# Altium footprint library Motorola Footprints.PcbLib: 408 footprints (part 10 of 26)
Each footprint in its own frame and in the unit in brackets; x right, y up, seen from the top. Pads: shape width x height; smd on the part's side, far side on the other; paste and mask are expansions set on the pad; w line width, h text height; cw(c..) or ccw(c..) is an arc to the next point about the centre after c.
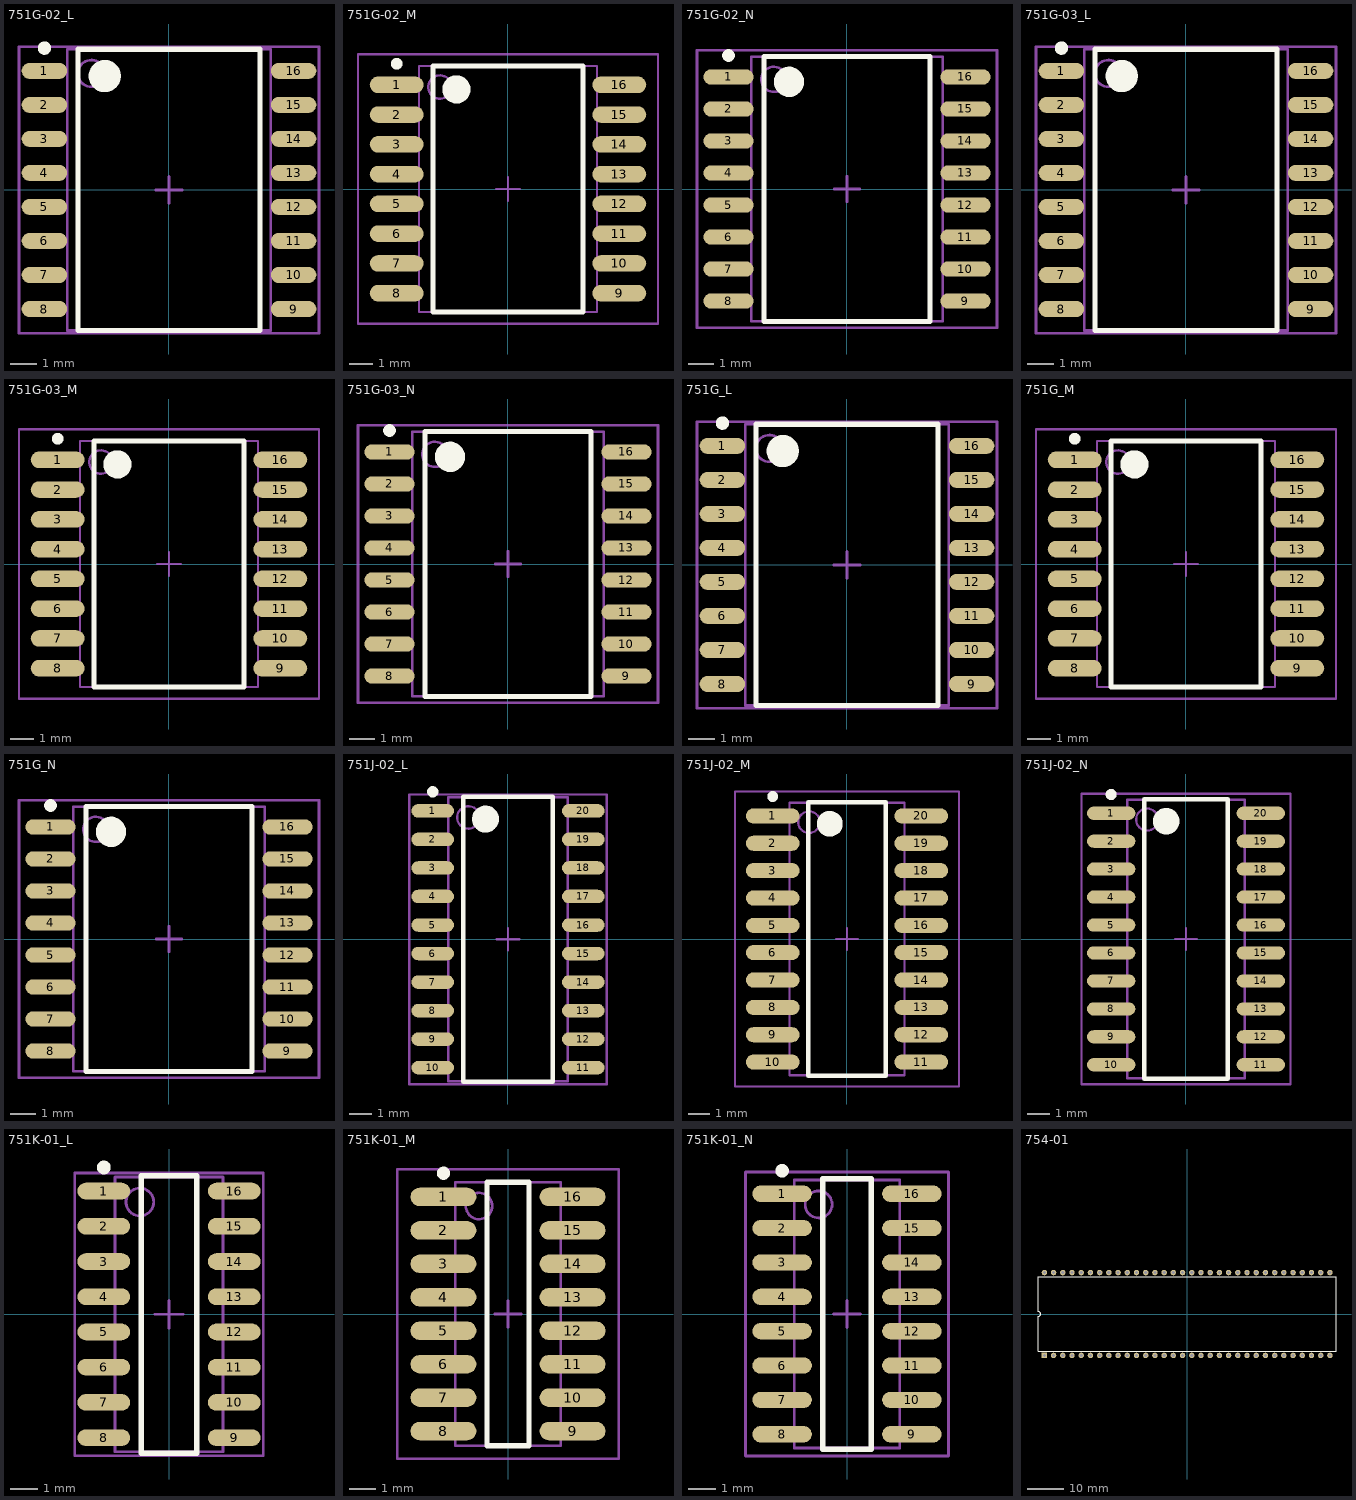
[diagram p9: the footprints below, top view; thin cyan lines are the x and y axes]

## 751G-02_L [mm] "16-Pin Small Outline Integrated Circuit 1.27 mm Pitch, IPC High Density"
height 2.65
pads (16):
  oval 1.7x0.6 smd: 1(-4.65,4.445) 2(-4.65,3.175) 3(-4.65,1.905) 4(-4.65,0.635) 5(-4.65,-0.635) 6(-4.65,-1.905) 7(-4.65,-3.175) 8(-4.65,-4.445) 9(4.65,-4.445) 10(4.65,-3.175) 11(4.65,-1.905) 12(4.65,-0.635) 13(4.65,0.635) 14(4.65,1.905) 15(4.65,3.175) 16(4.65,4.445)
Top Overlay:
  circle w0.6: c-2.4,4.25 r0.3
  circle w0.25: c-4.65,5.295 r0.125
  lines w0.2: -3.4,-5.25 3.4,-5.25 3.4,5.25 -3.4,5.25 -3.4,-5.25
Mechanical 13:
  circle w0.1: c-2.9,4.35 r0.5
  lines w0.1: -3.8,-5.25 3.8,-5.25 3.8,5.25 -3.8,5.25 -3.8,-5.25
Mechanical 15:
  lines w0.1: -0.5,0 0.5,0 ; 0,-0.5 0,0.5 ; -5.6,-5.35 5.6,-5.35 5.6,5.35 -5.6,5.35 -5.6,-5.35
3D body: height 2.65, standoff 0, extent -3.8,-5.25 3.8,5.25

## 751G-02_M [mm] "16-Pin Small Outline Integrated Circuit 1.27 mm Pitch, IPC Low Density"
height 2.65
pads (16):
  oval 2.3x0.7 smd: 1(-4.75,4.445) 2(-4.75,3.175) 3(-4.75,1.905) 4(-4.75,0.635) 5(-4.75,-0.635) 6(-4.75,-1.905) 7(-4.75,-3.175) 8(-4.75,-4.445) 9(4.75,-4.445) 10(4.75,-3.175) 11(4.75,-1.905) 12(4.75,-0.635) 13(4.75,0.635) 14(4.75,1.905) 15(4.75,3.175) 16(4.75,4.445)
Top Overlay:
  circle w0.25: c-4.75,5.345 r0.125
  circle w0.6: c-2.2,4.25 r0.3
  lines w0.2: -3.2,-5.25 -3.2,5.25 3.2,5.25 3.2,-5.25 -3.2,-5.25
Mechanical 13:
  circle w0.1: c-2.9,4.35 r0.5
  lines w0.1: -3.8,-5.25 -3.8,5.25 3.8,5.25 3.8,-5.25 -3.8,-5.25
Mechanical 15:
  lines w0.1: -0.5,0 0.5,0 ; 0,-0.5 0,0.5 ; -6.4,-5.75 -6.4,5.75 6.4,5.75 6.4,-5.75 -6.4,-5.75
3D body: height 2.65, standoff 0, extent -3.8,-5.25 3.8,5.25

## 751G-02_N [mm] "16-Pin Small Outline Integrated Circuit 1.27 mm Pitch, IPC Medium Density"
height 2.65
pads (16):
  oval 2x0.6 smd: 1(-4.7,4.445) 2(-4.7,3.175) 3(-4.7,1.905) 4(-4.7,0.635) 5(-4.7,-0.635) 6(-4.7,-1.905) 7(-4.7,-3.175) 8(-4.7,-4.445) 9(4.7,-4.445) 10(4.7,-3.175) 11(4.7,-1.905) 12(4.7,-0.635) 13(4.7,0.635) 14(4.7,1.905) 15(4.7,3.175) 16(4.7,4.445)
Top Overlay:
  circle w0.25: c-4.7,5.295 r0.125
  circle w0.6: c-2.3,4.25 r0.3
  lines w0.2: -3.3,-5.25 -3.3,5.25 3.3,5.25 3.3,-5.25 -3.3,-5.25
Mechanical 13:
  circle w0.1: c-2.9,4.35 r0.5
  lines w0.1: -3.8,-5.25 -3.8,5.25 3.8,5.25 3.8,-5.25 -3.8,-5.25
Mechanical 15:
  lines w0.1: -0.5,0 0.5,0 ; 0,-0.5 0,0.5 ; -5.95,-5.5 -5.95,5.5 5.95,5.5 5.95,-5.5 -5.95,-5.5
3D body: height 2.65, standoff 0, extent -3.8,-5.25 3.8,5.25

## 751G-03_L [mm] "16-Pin Small Outline Integrated Circuit 1.27 mm Pitch, IPC High Density"
height 2.65
pads (16):
  oval 1.7x0.6 smd: 1(-4.65,4.445) 2(-4.65,3.175) 3(-4.65,1.905) 4(-4.65,0.635) 5(-4.65,-0.635) 6(-4.65,-1.905) 7(-4.65,-3.175) 8(-4.65,-4.445) 9(4.65,-4.445) 10(4.65,-3.175) 11(4.65,-1.905) 12(4.65,-0.635) 13(4.65,0.635) 14(4.65,1.905) 15(4.65,3.175) 16(4.65,4.445)
Top Overlay:
  circle w0.6: c-2.4,4.25 r0.3
  circle w0.25: c-4.65,5.295 r0.125
  lines w0.2: -3.4,-5.25 3.4,-5.25 3.4,5.25 -3.4,5.25 -3.4,-5.25
Mechanical 13:
  circle w0.1: c-2.9,4.35 r0.5
  lines w0.1: -3.8,-5.25 3.8,-5.25 3.8,5.25 -3.8,5.25 -3.8,-5.25
Mechanical 15:
  lines w0.1: -0.5,0 0.5,0 ; 0,-0.5 0,0.5 ; -5.6,-5.35 5.6,-5.35 5.6,5.35 -5.6,5.35 -5.6,-5.35
3D body: height 2.65, standoff 0, extent -3.8,-5.25 3.8,5.25

## 751G-03_M [mm] "16-Pin Small Outline Integrated Circuit 1.27 mm Pitch, IPC Low Density"
height 2.65
pads (16):
  oval 2.3x0.7 smd: 1(-4.75,4.445) 2(-4.75,3.175) 3(-4.75,1.905) 4(-4.75,0.635) 5(-4.75,-0.635) 6(-4.75,-1.905) 7(-4.75,-3.175) 8(-4.75,-4.445) 9(4.75,-4.445) 10(4.75,-3.175) 11(4.75,-1.905) 12(4.75,-0.635) 13(4.75,0.635) 14(4.75,1.905) 15(4.75,3.175) 16(4.75,4.445)
Top Overlay:
  circle w0.25: c-4.75,5.345 r0.125
  circle w0.6: c-2.2,4.25 r0.3
  lines w0.2: -3.2,-5.25 -3.2,5.25 3.2,5.25 3.2,-5.25 -3.2,-5.25
Mechanical 13:
  circle w0.1: c-2.9,4.35 r0.5
  lines w0.1: -3.8,-5.25 -3.8,5.25 3.8,5.25 3.8,-5.25 -3.8,-5.25
Mechanical 15:
  lines w0.1: -0.5,0 0.5,0 ; 0,-0.5 0,0.5 ; -6.4,-5.75 -6.4,5.75 6.4,5.75 6.4,-5.75 -6.4,-5.75
3D body: height 2.65, standoff 0, extent -3.8,-5.25 3.8,5.25

## 751G-03_N [mm] "16-Pin Small Outline Integrated Circuit 1.27 mm Pitch, IPC Medium Density"
height 2.65
pads (16):
  oval 2x0.6 smd: 1(-4.7,4.445) 2(-4.7,3.175) 3(-4.7,1.905) 4(-4.7,0.635) 5(-4.7,-0.635) 6(-4.7,-1.905) 7(-4.7,-3.175) 8(-4.7,-4.445) 9(4.7,-4.445) 10(4.7,-3.175) 11(4.7,-1.905) 12(4.7,-0.635) 13(4.7,0.635) 14(4.7,1.905) 15(4.7,3.175) 16(4.7,4.445)
Top Overlay:
  circle w0.25: c-4.7,5.295 r0.125
  circle w0.6: c-2.3,4.25 r0.3
  lines w0.2: -3.3,-5.25 -3.3,5.25 3.3,5.25 3.3,-5.25 -3.3,-5.25
Mechanical 13:
  circle w0.1: c-2.9,4.35 r0.5
  lines w0.1: -3.8,-5.25 -3.8,5.25 3.8,5.25 3.8,-5.25 -3.8,-5.25
Mechanical 15:
  lines w0.1: -0.5,0 0.5,0 ; 0,-0.5 0,0.5 ; -5.95,-5.5 -5.95,5.5 5.95,5.5 5.95,-5.5 -5.95,-5.5
3D body: height 2.65, standoff 0, extent -3.8,-5.25 3.8,5.25

## 751G_L [mm] "16-Pin Small Outline Integrated Circuit 1.27 mm Pitch, IPC High Density"
height 2.65
pads (16):
  oval 1.7x0.6 smd: 1(-4.65,4.445) 2(-4.65,3.175) 3(-4.65,1.905) 4(-4.65,0.635) 5(-4.65,-0.635) 6(-4.65,-1.905) 7(-4.65,-3.175) 8(-4.65,-4.445) 9(4.65,-4.445) 10(4.65,-3.175) 11(4.65,-1.905) 12(4.65,-0.635) 13(4.65,0.635) 14(4.65,1.905) 15(4.65,3.175) 16(4.65,4.445)
Top Overlay:
  circle w0.6: c-2.4,4.25 r0.3
  circle w0.25: c-4.65,5.295 r0.125
  lines w0.2: -3.4,-5.25 3.4,-5.25 3.4,5.25 -3.4,5.25 -3.4,-5.25
Mechanical 13:
  circle w0.1: c-2.9,4.35 r0.5
  lines w0.1: -3.8,-5.25 3.8,-5.25 3.8,5.25 -3.8,5.25 -3.8,-5.25
Mechanical 15:
  lines w0.1: -0.5,0 0.5,0 ; 0,-0.5 0,0.5 ; -5.6,-5.35 5.6,-5.35 5.6,5.35 -5.6,5.35 -5.6,-5.35
3D body: height 2.65, standoff 0, extent -3.8,-5.25 3.8,5.25

## 751G_M [mm] "16-Pin Small Outline Integrated Circuit 1.27 mm Pitch, IPC Low Density"
height 2.65
pads (16):
  oval 2.3x0.7 smd: 1(-4.75,4.445) 2(-4.75,3.175) 3(-4.75,1.905) 4(-4.75,0.635) 5(-4.75,-0.635) 6(-4.75,-1.905) 7(-4.75,-3.175) 8(-4.75,-4.445) 9(4.75,-4.445) 10(4.75,-3.175) 11(4.75,-1.905) 12(4.75,-0.635) 13(4.75,0.635) 14(4.75,1.905) 15(4.75,3.175) 16(4.75,4.445)
Top Overlay:
  circle w0.25: c-4.75,5.345 r0.125
  circle w0.6: c-2.2,4.25 r0.3
  lines w0.2: -3.2,-5.25 -3.2,5.25 3.2,5.25 3.2,-5.25 -3.2,-5.25
Mechanical 13:
  circle w0.1: c-2.9,4.35 r0.5
  lines w0.1: -3.8,-5.25 -3.8,5.25 3.8,5.25 3.8,-5.25 -3.8,-5.25
Mechanical 15:
  lines w0.1: -0.5,0 0.5,0 ; 0,-0.5 0,0.5 ; -6.4,-5.75 -6.4,5.75 6.4,5.75 6.4,-5.75 -6.4,-5.75
3D body: height 2.65, standoff 0, extent -3.8,-5.25 3.8,5.25

## 751G_N [mm] "16-Pin Small Outline Integrated Circuit 1.27 mm Pitch, IPC Medium Density"
height 2.65
pads (16):
  oval 2x0.6 smd: 1(-4.7,4.445) 2(-4.7,3.175) 3(-4.7,1.905) 4(-4.7,0.635) 5(-4.7,-0.635) 6(-4.7,-1.905) 7(-4.7,-3.175) 8(-4.7,-4.445) 9(4.7,-4.445) 10(4.7,-3.175) 11(4.7,-1.905) 12(4.7,-0.635) 13(4.7,0.635) 14(4.7,1.905) 15(4.7,3.175) 16(4.7,4.445)
Top Overlay:
  circle w0.25: c-4.7,5.295 r0.125
  circle w0.6: c-2.3,4.25 r0.3
  lines w0.2: -3.3,-5.25 -3.3,5.25 3.3,5.25 3.3,-5.25 -3.3,-5.25
Mechanical 13:
  circle w0.1: c-2.9,4.35 r0.5
  lines w0.1: -3.8,-5.25 -3.8,5.25 3.8,5.25 3.8,-5.25 -3.8,-5.25
Mechanical 15:
  lines w0.1: -0.5,0 0.5,0 ; 0,-0.5 0,0.5 ; -5.95,-5.5 -5.95,5.5 5.95,5.5 5.95,-5.5 -5.95,-5.5
3D body: height 2.65, standoff 0, extent -3.8,-5.25 3.8,5.25

## 751J-02_L [mm] "20-Pin Small Outline Package 1.27 mm Pitch, IPC High Density"
height 2
pads (20):
  oval 1.9x0.6 smd: 1(-3.35,5.715) 2(-3.35,4.445) 3(-3.35,3.175) 4(-3.35,1.905) 5(-3.35,0.635) 6(-3.35,-0.635) 7(-3.35,-1.905) 8(-3.35,-3.175) 9(-3.35,-4.445) 10(-3.35,-5.715) 11(3.35,-5.715) 12(3.35,-4.445) 13(3.35,-3.175) 14(3.35,-1.905) 15(3.35,-0.635) 16(3.35,0.635) 17(3.35,1.905) 18(3.35,3.175) 19(3.35,4.445) 20(3.35,5.715)
Top Overlay:
  circle w0.25: c-3.35,6.565 r0.125
  circle w0.6: c-1,5.35 r0.3
  lines w0.2: -2,-6.35 -2,6.35 2,6.35 2,-6.35 -2,-6.35
Mechanical 13:
  circle w0.1: c-1.765,5.425 r0.5
  lines w0.1: -2.665,-6.325 -2.665,6.325 2.665,6.325 2.665,-6.325 -2.665,-6.325
Mechanical 15:
  lines w0.1: -0.5,0 0.5,0 ; 0,-0.5 0,0.5 ; -4.4,-6.45 -4.4,6.45 4.4,6.45 4.4,-6.45 -4.4,-6.45
3D body: height 2, standoff 0, extent -2.665,-6.325 2.665,6.325

## 751J-02_M [mm] "20-Pin Small Outline Package 1.27 mm Pitch, IPC Low Density"
height 2
pads (20):
  oval 2.5x0.7 smd: 1(-3.45,5.715) 2(-3.45,4.445) 3(-3.45,3.175) 4(-3.45,1.905) 5(-3.45,0.635) 6(-3.45,-0.635) 7(-3.45,-1.905) 8(-3.45,-3.175) 9(-3.45,-4.445) 10(-3.45,-5.715) 11(3.45,-5.715) 12(3.45,-4.445) 13(3.45,-3.175) 14(3.45,-1.905) 15(3.45,-0.635) 16(3.45,0.635) 17(3.45,1.905) 18(3.45,3.175) 19(3.45,4.445) 20(3.45,5.715)
Top Overlay:
  circle w0.6: c-0.8,5.35 r0.3
  circle w0.25: c-3.45,6.615 r0.125
  lines w0.2: -1.8,-6.35 1.8,-6.35 1.8,6.35 -1.8,6.35 -1.8,-6.35
Mechanical 13:
  circle w0.1: c-1.765,5.425 r0.5
  lines w0.1: -2.665,-6.325 2.665,-6.325 2.665,6.325 -2.665,6.325 -2.665,-6.325
Mechanical 15:
  lines w0.1: -0.5,0 0.5,0 ; 0,-0.5 0,0.5 ; -5.2,-6.85 5.2,-6.85 5.2,6.85 -5.2,6.85 -5.2,-6.85
3D body: height 2, standoff 0, extent -2.665,-6.325 2.665,6.325

## 751J-02_N [mm] "20-Pin Small Outline Package 1.27 mm Pitch, IPC Medium Density"
height 2
pads (20):
  oval 2.2x0.6 smd: 1(-3.4,5.715) 2(-3.4,4.445) 3(-3.4,3.175) 4(-3.4,1.905) 5(-3.4,0.635) 6(-3.4,-0.635) 7(-3.4,-1.905) 8(-3.4,-3.175) 9(-3.4,-4.445) 10(-3.4,-5.715) 11(3.4,-5.715) 12(3.4,-4.445) 13(3.4,-3.175) 14(3.4,-1.905) 15(3.4,-0.635) 16(3.4,0.635) 17(3.4,1.905) 18(3.4,3.175) 19(3.4,4.445) 20(3.4,5.715)
Top Overlay:
  circle w0.25: c-3.4,6.565 r0.125
  circle w0.6: c-0.9,5.35 r0.3
  lines w0.2: -1.9,-6.35 -1.9,6.35 1.9,6.35 1.9,-6.35 -1.9,-6.35
Mechanical 13:
  circle w0.1: c-1.765,5.425 r0.5
  lines w0.1: -2.665,-6.325 -2.665,6.325 2.665,6.325 2.665,-6.325 -2.665,-6.325
Mechanical 15:
  lines w0.1: -0.5,0 0.5,0 ; 0,-0.5 0,0.5 ; -4.75,-6.6 -4.75,6.6 4.75,6.6 4.75,-6.6 -4.75,-6.6
3D body: height 2, standoff 0, extent -2.665,-6.325 2.665,6.325

## 751K-01_L [mm] "16-Pin Small Outline Integrated Circuit 1.27 mm Pitch, IPC High Density"
height 1.75
pads (16):
  oval 1.9x0.6 smd: 1(-2.35,4.445) 2(-2.35,3.175) 3(-2.35,1.905) 4(-2.35,0.635) 5(-2.35,-0.635) 6(-2.35,-1.905) 7(-2.35,-3.175) 8(-2.35,-4.445) 9(2.35,-4.445) 10(2.35,-3.175) 11(2.35,-1.905) 12(2.35,-0.635) 13(2.35,0.635) 14(2.35,1.905) 15(2.35,3.175) 16(2.35,4.445)
Top Overlay:
  circle w0.25: c-2.35,5.295 r0.125
  lines w0.2: -1,-5 1,-5 1,5 -1,5 -1,-5
Mechanical 13:
  circle w0.1: c-1.05,4.05 r0.5
  lines w0.1: -1.95,-4.95 1.95,-4.95 1.95,4.95 -1.95,4.95 -1.95,-4.95
Mechanical 15:
  lines w0.1: -0.5,0 0.5,0 ; 0,-0.5 0,0.5 ; -3.4,-5.1 3.4,-5.1 3.4,5.1 -3.4,5.1 -3.4,-5.1
3D body: height 1.75, standoff 0, extent -1.95,-4.95 1.95,4.95

## 751K-01_M [mm] "16-Pin Small Outline Integrated Circuit 1.27 mm Pitch, IPC Low Density"
height 1.75
pads (16):
  oval 2.5x0.7 smd: 1(-2.45,4.445) 2(-2.45,3.175) 3(-2.45,1.905) 4(-2.45,0.635) 5(-2.45,-0.635) 6(-2.45,-1.905) 7(-2.45,-3.175) 8(-2.45,-4.445) 9(2.45,-4.445) 10(2.45,-3.175) 11(2.45,-1.905) 12(2.45,-0.635) 13(2.45,0.635) 14(2.45,1.905) 15(2.45,3.175) 16(2.45,4.445)
Top Overlay:
  circle w0.25: c-2.45,5.345 r0.125
  lines w0.2: -0.8,-5 0.8,-5 0.8,5 -0.8,5 -0.8,-5
Mechanical 13:
  circle w0.1: c-1.1,4.1 r0.5
  lines w0.1: -2,-5 2,-5 2,5 -2,5 -2,-5
Mechanical 15:
  lines w0.1: -0.5,0 0.5,0 ; 0,-0.5 0,0.5 ; -4.2,-5.5 4.2,-5.5 4.2,5.5 -4.2,5.5 -4.2,-5.5
3D body: height 1.75, standoff 0, extent -2,-5 2,5

## 751K-01_N [mm] "16-Pin Small Outline Integrated Circuit 1.27 mm Pitch, IPC Medium Density"
height 1.75
pads (16):
  oval 2.2x0.6 smd: 1(-2.4,4.445) 2(-2.4,3.175) 3(-2.4,1.905) 4(-2.4,0.635) 5(-2.4,-0.635) 6(-2.4,-1.905) 7(-2.4,-3.175) 8(-2.4,-4.445) 9(2.4,-4.445) 10(2.4,-3.175) 11(2.4,-1.905) 12(2.4,-0.635) 13(2.4,0.635) 14(2.4,1.905) 15(2.4,3.175) 16(2.4,4.445)
Top Overlay:
  circle w0.25: c-2.4,5.295 r0.125
  lines w0.2: -0.9,-5 -0.9,5 0.9,5 0.9,-5 -0.9,-5
Mechanical 13:
  circle w0.1: c-1.05,4.05 r0.5
  lines w0.1: -1.95,-4.95 -1.95,4.95 1.95,4.95 1.95,-4.95 -1.95,-4.95
Mechanical 15:
  lines w0.1: -0.5,0 0.5,0 ; 0,-0.5 0,0.5 ; -3.75,-5.25 -3.75,5.25 3.75,5.25 3.75,-5.25 -3.75,-5.25
3D body: height 1.75, standoff 0, extent -1.95,-4.95 1.95,4.95

## 754-01 [mm] "DIP; 64 Leads; Row Spacing 22.86 mm; Pitch 2.54 mm"
height 5.84
pads (64):
  rect 1.5x1.5 hole 0.9: 1(-39.37,-11.43)
  round 1.5 hole 0.9: 2(-36.83,-11.43) 3(-34.29,-11.43) 4(-31.75,-11.43) 5(-29.21,-11.43) 6(-26.67,-11.43) 7(-24.13,-11.43) 8(-21.59,-11.43) 9(-19.05,-11.43) 10(-16.51,-11.43) 11(-13.97,-11.43) 12(-11.43,-11.43) 13(-8.89,-11.43) 14(-6.35,-11.43) 15(-3.81,-11.43) 16(-1.27,-11.43) 17(1.27,-11.43) 18(3.81,-11.43) 19(6.35,-11.43) 20(8.89,-11.43) 21(11.43,-11.43) 22(13.97,-11.43) 23(16.51,-11.43) 24(19.05,-11.43) 25(21.59,-11.43) 26(24.13,-11.43) 27(26.67,-11.43) 28(29.21,-11.43) 29(31.75,-11.43) 30(34.29,-11.43) 31(36.83,-11.43) 32(39.37,-11.43) 33(39.37,11.43) 34(36.83,11.43) 35(34.29,11.43) 36(31.75,11.43) 37(29.21,11.43) 38(26.67,11.43) 39(24.13,11.43) 40(21.59,11.43) 41(19.05,11.43) 42(16.51,11.43) 43(13.97,11.43) 44(11.43,11.43) 45(8.89,11.43) 46(6.35,11.43) 47(3.81,11.43) 48(1.27,11.43) 49(-1.27,11.43) 50(-3.81,11.43) 51(-6.35,11.43) 52(-8.89,11.43) 53(-11.43,11.43) 54(-13.97,11.43) 55(-16.51,11.43) 56(-19.05,11.43) 57(-21.59,11.43) 58(-24.13,11.43) 59(-26.67,11.43) 60(-29.21,11.43) 61(-31.75,11.43) 62(-34.29,11.43) 63(-36.83,11.43) 64(-39.37,11.43)
Top Overlay:
  lines w0.2: -41.05,-10.25 -41.05,-0.635 ccw(c-41.05,0) -41.05,0.635 -41.05,10.25 41.05,10.25 41.05,-10.25 -41.05,-10.25